# Altium schematic symbol library TI-TPS2066D8new.SchLib: 1 symbol
Pins are listed as number, name and electrical type; pins without a type are passive.

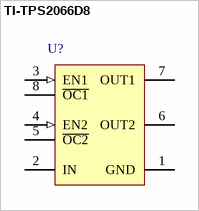
[diagram p0: symbol TI-TPS2066D8]

## TI-TPS2066D8
designator U?
footprint D8_L (SOIC, 8-Leads, Body 4.9x3.9mm, Pitch 1.27mm, IPC High Density)
pins: 1 GND (power) "Ground", 2 IN (power) "Input voltage", 3 EN1 (in) "Enable input, logic low turns on power switch IN-OUT1", 4 EN2 (in) "Enable input, logic low turns on power switch IN-OUT2", 5 ~{OC2} (oc) "Overcurrent, open-drain output, active low, IN-OUT2", 6 OUT2 (power) "Power-switch output, IN-OUT2", 7 OUT1 (power) "Power-switch output, IN-OUT1", 8 ~{OC1} (oc) "Overcurrent, open-drain output, active low, IN-OUT1"